# Altium footprint library rcl.PCBLIB: 489 footprints (part 22 of 31)
Each footprint in its own frame and in the unit in brackets; x right, y up, seen from the top. Pads: shape width x height; smd on the part's side, far side on the other; paste and mask are expansions set on the pad; w line width, h text height; cw(c..) or ccw(c..) is an arc to the next point about the centre after c.
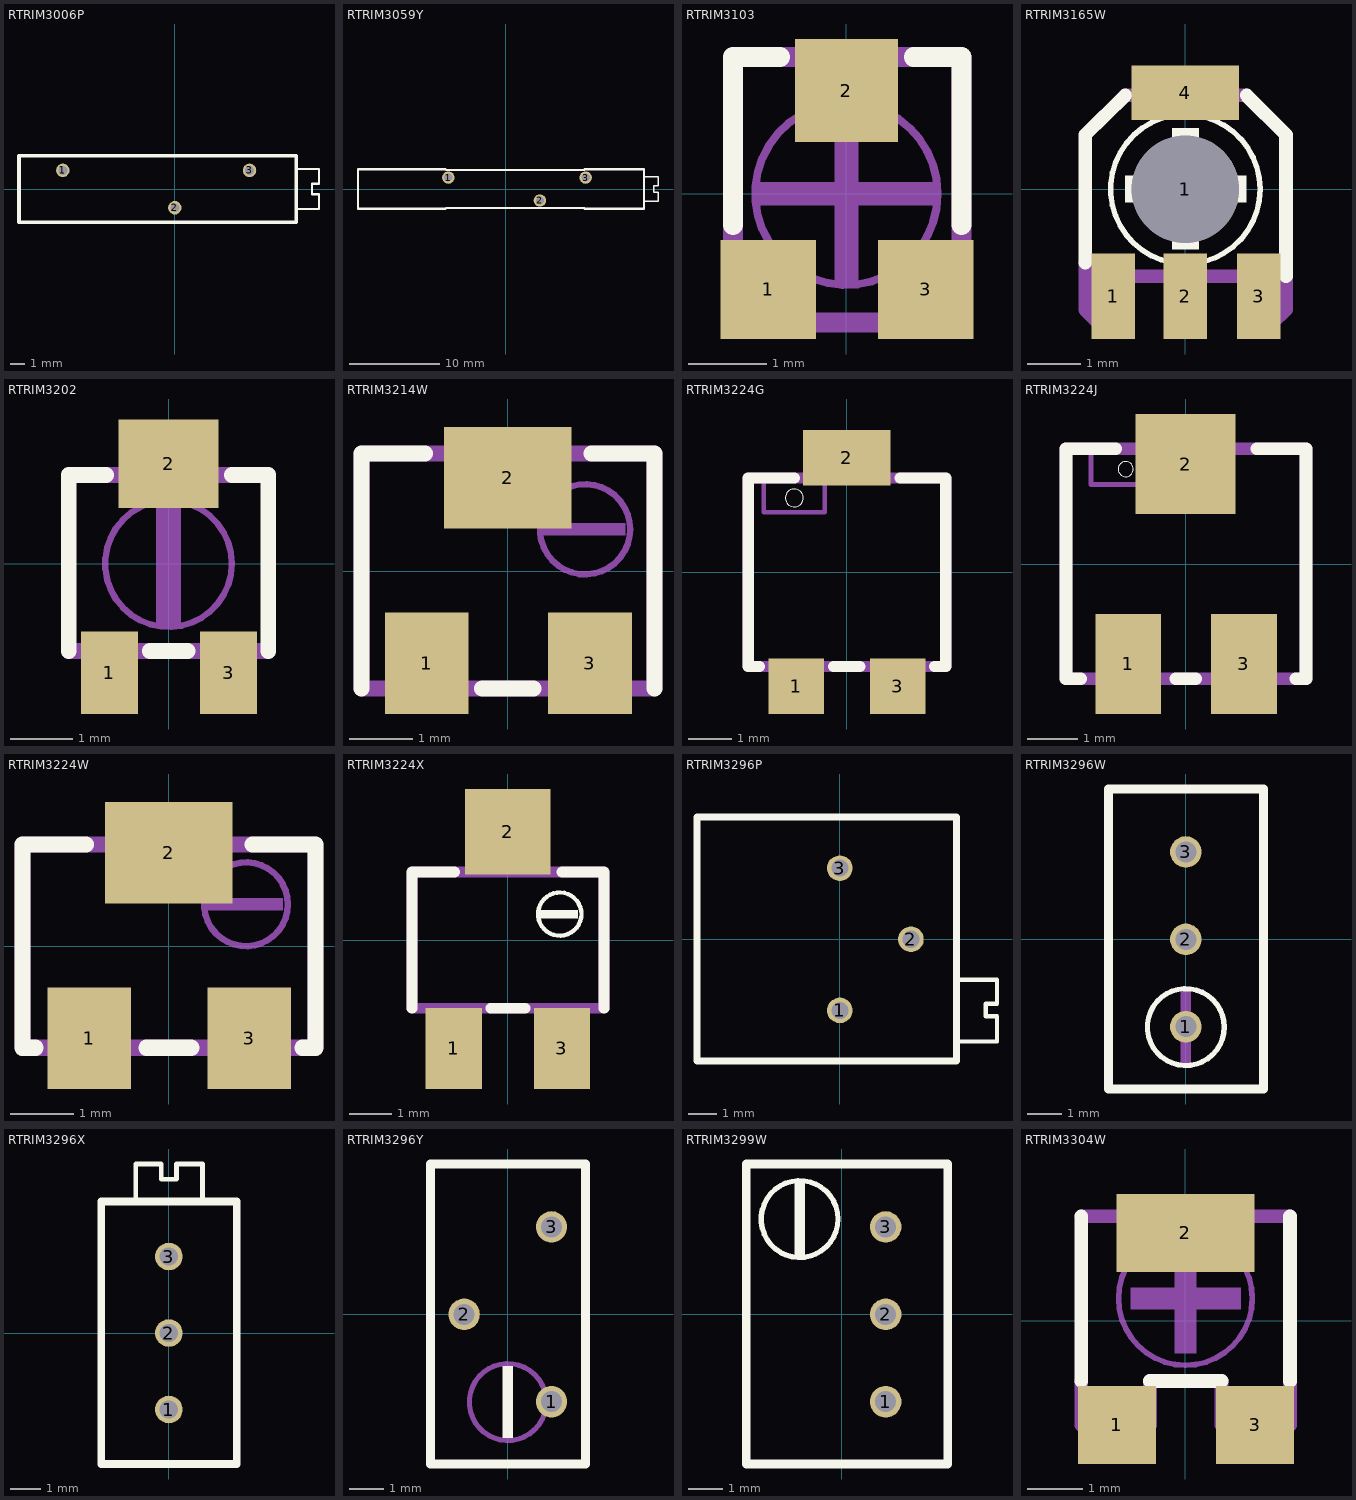
[diagram p21: the footprints below, top view; thin cyan lines are the x and y axes]

## RTRIM3006P [mil]
pads (3):
  round 36 hole 24: 1(-300,50) 2(0,-50) 3(200,50)
Top Overlay:
  lines w6: 329,-53.15 386,-53.15 386,-13.78 367,-13.78 367,14 386,14 386,54 329,54
  lines w10: -417.32,-88.58 -417.32,89 325,89 325,-88.58 -417.32,-88.58

## RTRIM3059Y [mil]
pads (3):
  round 54 hole 36: 1(-250,50) 2(150,-50) 3(350,50)
Top Overlay:
  lines w6: 609,-53.15 666,-53.15 666,-13.78 647,-13.78 647,14 666,14 666,54 609,54
  lines w10: -644.49,-86.61 -644.49,87 -263.39,87 -259.45,83 343,83 347,87 605,87 605,-86.61 347,-86.61 343,-82.68 -259.45,-82.68 -263.39,-86.61 -644.49,-86.61

## RTRIM3103 [mil]
pads (3):
  rect 48x50 smd: 1(-39.37,-48.23) 3(40,-48.23)
  rect 52x52 smd: 2(0,52)
Top Overlay:
  lines w10: -57.09,-15.75 -57.09,69 -33.46,69 ; 34,69 58,69 58,-15.75
Mechanical 16:
  circle w4: c0,0 r46
  rectangle: -45.28,-5.91 46,6
  rectangle: -5.91,-45.28 6,46
  lines w10: -57.09,-64.96 -57.09,69 58,69 58,-64.96 -57.09,-64.96

## RTRIM3165W [mil]
pads (5):
  rect 32x63 smd: 1(-53.15,-78.74) 2(0,-78.74) 3(54,-78.74)
  round 79 hole 79: 1(0,0)
  rect 79x40 smd: 4(0,71)
Top Overlay:
  circle w4: c0,0 r55
  rectangle: -9.84,-44.29 10,45
  rectangle: -44.29,-9.84 45,10
  lines w10: -73.82,-54.13 -73.82,40 -44.29,69 ; 45,69 74,40 74,-63.98
Mechanical 16:
  lines w10: -73.82,-54.13 -73.82,-88.58 -63.98,-98.43 -44.29,-98.43 -44.29,-63.98 -9.84,-63.98 -9.84,-98.43 10,-98.43 10,-63.98 45,-63.98 45,-98.43 64,-98.43 74,-88.58 74,-63.98 ; -44.29,69 45,69

## RTRIM3202 [mil]
pads (3):
  rect 36x52 smd: 1(-37.4,-68.9) 3(38,-68.9)
  rect 63x56 smd: 2(0,63)
Top Overlay:
  lines w10: -62.99,-55.12 -62.99,56 -39.37,56 ; -11.81,-55.12 12,-55.12 ; 40,56 63,56 63,-55.12
Mechanical 16:
  circle w4: c0,0 r40
  rectangle: -7.87,-39.37 8,40
  lines w10: -62.99,-55.12 63,-55.12 ; -62.99,56 63,56

## RTRIM3214W [mil]
pads (3):
  rect 52x63 smd: 1(-50.2,-57.09) 3(51,-57.09)
  rect 79x63 smd: 2(0,58)
Top Overlay:
  lines w10: -90.55,-72.83 -90.55,73 -51.18,73 ; -15.75,-72.83 16,-72.83 ; 52,73 91,73 91,-72.83
Mechanical 16:
  circle w4: c48,26 r28
  rectangle: 22,22 73,30
  rectangle: -70.87,-82.68 -29.53,-76.77
  rectangle: 30,-82.68 71,-76.77
  rectangle: -29.53,77 30,83
  lines w10: -90.55,-72.83 -90.55,73 91,73 91,-72.83 -90.55,-72.83

## RTRIM3224G [mil]
pads (3):
  rect 50x50 smd: 1(-45.28,-102.36) 3(46,-102.36)
  rect 79x50 smd: 2(0,103)
Top Overlay:
  circle w0: c-47.24,67 r8
  lines w10: -78.74,-84.65 -88.58,-84.65 -88.58,85 -47.24,85 ; -11.81,-84.65 12,-84.65 ; 48,85 89,85 89,-84.65 79,-84.65
Mechanical 16:
  rectangle: -25.59,89 26,119
  rectangle: -62.99,-118.11 -27.56,-88.58
  rectangle: 28,-118.11 63,-88.58
  lines w4: -74.8,81 -74.8,54 -19.68,54 -19.68,81
  lines w10: -88.58,-84.65 89,-84.65 89,85 -88.58,85 -88.58,-84.65

## RTRIM3224J [mil]
pads (3):
  rect 52x79 smd: 1(-45.28,-78.74) 3(46,-78.74)
  rect 79x79 smd: 2(0,79)
Top Overlay:
  circle w0: c-47.24,75 r6
  lines w10: -82.68,-90.55 -94.49,-90.55 -94.49,91 -55.12,91 ; -7.87,-90.55 8,-90.55 ; 56,91 95,91 95,-90.55 87,-90.55
Mechanical 16:
  rectangle: -23.62,95 24,99
  rectangle: 28,-98.43 63,-94.49
  rectangle: -62.99,-98.43 -27.56,-94.49
  lines w4: -74.8,87 -74.8,63 -19.68,63 -19.68,87
  lines w10: -94.49,-90.55 95,-90.55 95,91 -94.49,91 -94.49,-90.55

## RTRIM3224W [mil]
pads (3):
  rect 52x63 smd: 1(-49.21,-57.09) 3(50,-57.09)
  rect 79x63 smd: 2(0,58)
Top Overlay:
  lines w10: -82.68,-62.99 -90.55,-62.99 -90.55,63 -51.18,63 ; -13.78,-62.99 14,-62.99 ; 52,63 91,63 91,-62.99 83,-62.99
Mechanical 16:
  circle w4: c48,26 r26
  rectangle: -27.56,67 28,77
  rectangle: 34,-76.77 65,-66.93
  rectangle: -64.96,-76.77 -33.46,-66.93
  rectangle: 24,22 71,30
  lines w10: -90.55,-62.99 91,-62.99 91,63 -90.55,63 -90.55,-62.99

## RTRIM3224X [mil]
pads (3):
  rect 52x75 smd: 1(-50,-100) 3(50,-100)
  rect 79x79 smd: 2(0,100)
Top Overlay:
  circle w4: c48,24 r20
  rectangle: 30,20 65,28
  lines w10: -88.58,-62.99 -88.58,63 -49.21,63 ; -15.75,-62.99 16,-62.99 ; 50,63 89,63 89,-62.99
Mechanical 16:
  rectangle: -66.93,-112.2 -35.43,-66.93
  rectangle: 36,-112.2 67,-66.93
  rectangle: -25.59,67 26,113
  lines w10: -88.58,-62.99 -88.58,63 89,63 89,-62.99 -88.58,-62.99

## RTRIM3296P [mil]
pads (3):
  round 36 hole 24: 1(0,-100) 2(100,0) 3(0,100)
Top Overlay:
  lines w6: 168,-143.7 221,-143.7 221,-108.27 205,-108.27 205,-90.55 221,-90.55 221,-57.09 168,-57.09
  lines w10: -200.79,-171.26 -200.79,172 164,172 164,-171.26 -200.79,-171.26

## RTRIM3296W [mil]
pads (3):
  round 36 hole 24: 1(0,-100) 2(0,0) 3(0,100)
Top Overlay:
  circle w6: c0,-100.39 r44
  lines w10: -88.58,-171.26 89,-171.26 89,172 -88.58,172 -88.58,-171.26
Mechanical 16:
  rectangle: -5.91,-141.73 6,-59.06

## RTRIM3296X [mil]
pads (3):
  round 36 hole 24: 1(0,-100) 2(0,0) 3(0,100)
Top Overlay:
  lines w6: -43.31,174 -43.31,221 -9.84,221 -9.84,201 10,201 10,221 44,221 44,174
  lines w10: -88.58,-171.26 89,-171.26 89,172 -88.58,172 -88.58,-171.26

## RTRIM3296Y [mil]
pads (3):
  round 36 hole 24: 1(50,-100) 2(-50,0) 3(50,100)
Top Overlay:
  rectangle: -5.91,-141.73 6,-59.06
  lines w10: -88.58,-171.26 89,-171.26 89,172 -88.58,172 -88.58,-171.26
Mechanical 16:
  circle w6: c0,-100.39 r44

## RTRIM3299W [mil]
pads (3):
  round 36 hole 24: 1(50,-100) 2(50,0) 3(50,100)
Top Overlay:
  circle w6: c-48.43,109 r44
  rectangle: -54.33,67 -42.52,150
  lines w10: -109.45,-171.26 121,-171.26 121,172 -109.45,172 -109.45,-171.26

## RTRIM3304W [mil]
pads (3):
  rect 56x56 smd: 1(-49.21,-74.8) 3(50,-74.8)
  rect 99x56 smd: 2(0,63)
Top Overlay:
  lines w10: -74.8,-43.31 -74.8,75 ; -25.59,-43.31 26,-43.31 ; 75,-43.31 75,75
Mechanical 16:
  circle w4: c0,16 r48
  rectangle: -39.37,8 40,24
  rectangle: -7.87,-23.62 8,56
  lines w10: -74.8,-43.31 -74.8,-74.8 -25.59,-74.8 -25.59,-43.31 ; -74.8,75 75,75 ; 26,-43.31 26,-74.8 75,-74.8 75,-43.31